# Altium schematic symbol library SW_DIP_6P.SchLib: 1 symbol
Pins are listed as number, name and electrical type; pins without a type are passive.

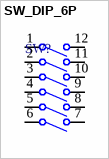
[diagram p0: symbol SW_DIP_6P]

## SW_DIP_6P
designator SW?
pins: 1 A1, 2 A2, 3 A3, 4 A3, 5 A3, 6 A3, 7 B3, 8 B3, 9 B3, 10 B3, 11 B2, 12 B1